# EAGLE library part BQ25070 (library My_TI)
1A, Single-Input, Single-Cell LiFePO4 Linear Battery Charger with 50mA LDO
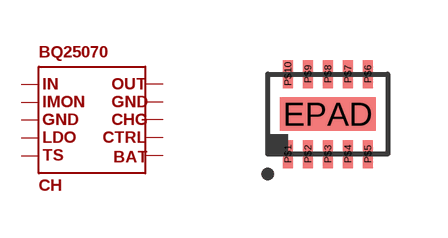
[diagram p14: symbol with the pads of DFN10_2X3; footprint DFN10_2X3]

Designator prefix CH

## BQ25070  [DFN10_2X3]
EPAD  P$3
P$1  P$1
P$2  P$2
P$3  P$3
P$4  P$4
P$5  P$5
P$6  P$6
P$7  P$7
P$8  P$8
P$9  P$9
P$10  P$10

## Footprint DFN10_2X3 (pad centres in mm)
smd 2.4 x 0.84: EPAD 0,0
smd 0.25 x 0.7: P$1 -1,-1; P$2 -0.5,-1; P$3 0,-1; P$4 0.5,-1; P$5 1,-1; P$6 1,1; P$7 0.5,1; P$8 0,1; P$9 -0.5,1; P$10 -1,1